# Altium schematic symbol library 10118193-0001LF.SchLib: 1 symbol
Pins are listed as number, name and electrical type; pins without a type are passive.

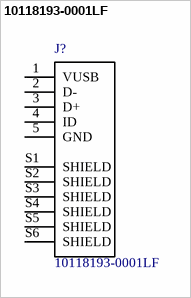
[diagram p0: symbol 10118193-0001LF]

## 10118193-0001LF
designator J?
Single Port 5 Contact Shielded SMT MICRO USB B-Type Receptacle; MF: Amphenol ICC; Availability: Unavailable; SnapEDA_Link: https://www.snapeda.com/parts/10118193-0001LF/Amphenol%20ICC/view-part/?ref=snap; MP: 10118193-0001LF; Price: None; Package: None; Value: *
footprint *FCI_10118193-0001LF_10118193-0001LF(Primary)
pins: 1 VUSB, 2 D-, 3 D+, 4 ID, 5 GND, S1 SHIELD, S2 SHIELD, S3 SHIELD, S4 SHIELD, S5 SHIELD, S6 SHIELD